# EAGLE library part WIZ810 (library wiznet)
WIZ810MJ is the network module that includes W5100 (TCP/IP hardwired chip, include PHY), MAG-JACK (RJ45 with X?FMR) with other glue logics. It can be used as a component and no effort is required to interface W5100 and Transformer. The WIZ810MJ is an ideal option for users who want to develop their Internet enabling systems rapidly.
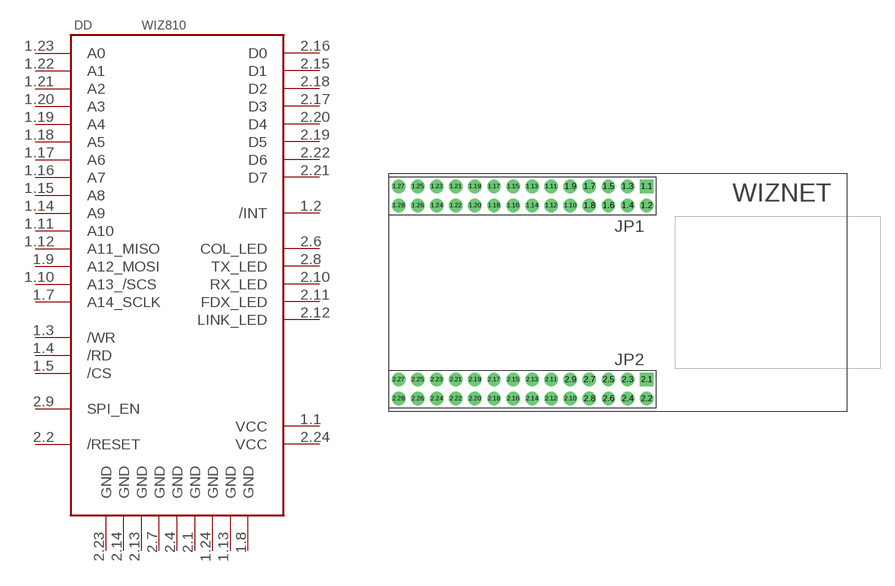
[diagram p1: symbol with the pads of WIZ-MJ; footprint WIZ-MJ]

Designator prefix DD

## WIZ810MJ  [WIZ-MJ]
1.1  VCC  pwr
1.2  /INT  out
1.3  /WR  in
1.4  /RD  in
1.5  /CS  in
1.7  A14_SCLK  in
1.8  GND  pwr
1.9  A12_MOSI  in
1.10  A13_/SCS  in
1.11  A10  in
1.12  A11_MISO  in
1.13  GND  pwr
1.14  A9  in
1.15  A8  in
1.16  A7  in
1.17  A6  in
1.18  A5  in
1.19  A4  in
1.20  A3  in
1.21  A2  in
1.22  A1  in
1.23  A0  in
1.24  GND  pwr
2.1  GND  pwr
2.2  /RESET  in
2.4  GND  pwr
2.6  COL_LED  out
2.7  GND  pwr
2.8  TX_LED  out
2.9  SPI_EN  in
2.10  RX_LED  out
2.11  FDX_LED  out
2.12  LINK_LED  out
2.13  GND  pwr
2.14  GND  pwr
2.15  D1
2.16  D0
2.17  D3
2.18  D2
2.19  D5
2.20  D4
2.21  D7
2.22  D6
2.23  GND  pwr
2.24  VCC  pwr

## Footprint WIZ-MJ (pad centres in mm)
Wiznet module with Mag Jack
drill 0.9 square: 1.1 -3,11.12; 2.1 -3,-9.12
drill 0.9 round: 1.2 -3,9.12; 1.3 -5,11.12; 1.4 -5,9.12; 1.5 -7,11.12; 1.6 -7,9.12; 1.7 -9,11.12; 1.8 -9,9.12; 1.9 -11,11.12; 1.10 -11,9.12; 1.11 -13,11.12; 1.12 -13,9.12; 1.13 -15,11.12; 1.14 -15,9.12; 1.15 -17,11.12; 1.16 -17,9.12; 1.17 -19,11.12; 1.18 -19,9.12; 1.19 -21,11.12; 1.20 -21,9.12; 1.21 -23,11.12; 1.22 -23,9.12; 1.23 -25,11.12; 1.24 -25,9.12; 1.25 -27,11.12; 1.26 -27,9.12; 1.27 -29,11.12; 1.28 -29,9.12; 2.2 -3,-11.12; 2.3 -5,-9.12; 2.4 -5,-11.12; 2.5 -7,-9.12; 2.6 -7,-11.12; 2.7 -9,-9.12; 2.8 -9,-11.12; 2.9 -11,-9.12; 2.10 -11,-11.12; 2.11 -13,-9.12; 2.12 -13,-11.12; 2.13 -15,-9.12; 2.14 -15,-11.12; 2.15 -17,-9.12; 2.16 -17,-11.12; 2.17 -19,-9.12; 2.18 -19,-11.12; 2.19 -21,-9.12; 2.20 -21,-11.12; 2.21 -23,-9.12; 2.22 -23,-11.12; 2.23 -25,-9.12; 2.24 -25,-11.12; 2.25 -27,-9.12; 2.26 -27,-11.12; 2.27 -29,-9.12; 2.28 -29,-11.12